# Altium schematic symbol library UCPD_capacitors.SchLib: 9 symbols
Pins are listed as number, name and electrical type; pins without a type are passive.

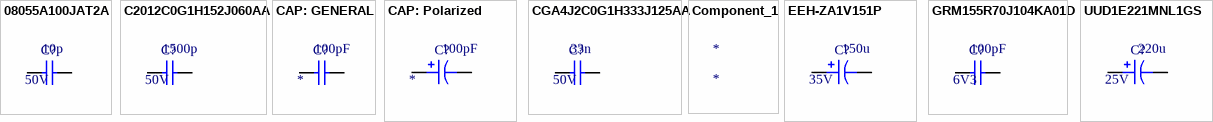
[diagram p0: symbols 08055A100JAT2A to UUD1E221MNL1GS]

## 08055A100JAT2A
designator C?  value 10p  Voltage: 50V  (hidden comment: 08055A100JAT2A)
CAP CER 10PF 50V C0G/NP0 0805; Manufacturer: AVX; Accuracy: 5%; Manufacturer Part Number: 08055A100JAT2A; Supplier Part Number 1: 478-1304-1-ND; Type: *; Package: 0805(2012m); Supplier 1: Digi-Key
footprint CAPC0603X03N (Chip Capacitor, 2-Leads, Body 0.60x0.30mm, IPC Medium Density (0201))
footprint CAPC1005X06N (Chip Capacitor, 2-Leads, Body 1.00x0.50mm, IPC Medium Density (0402))
footprint CAPC1608X09N (Chip Capacitor, 2-Leads, Body 1.60x0.80mm, IPC Medium Density (0603))
footprint CAPC2012X14N (Chip Capacitor, 2-Leads, Body 2.00x1.25mm, IPC Medium Density (0805))
footprint CAPC3225X28N (Chip Capacitor, 2-Leads, Body 3.20x2.50mm, IPC Medium Density (1210))
pins: 1, 2

## C2012C0G1H152J060AA
designator C?  value 1500p  Voltage: 50V  (hidden comment: C2012C0G1H152J060AA)
CAP CER 1500PF 50V C0G 0805; Manufacturer: TDK; Accuracy: 5%; Manufacturer Part Number: C2012C0G1H152J060AA; Supplier Part Number 1: 445-1331-1-ND; Type: *; Package: 0805(2012m); Supplier 1: Digi-Key
footprint CAPC0603X03N (Chip Capacitor, 2-Leads, Body 0.60x0.30mm, IPC Medium Density (0201))
footprint CAPC1005X06N (Chip Capacitor, 2-Leads, Body 1.00x0.50mm, IPC Medium Density (0402))
footprint CAPC1608X09N (Chip Capacitor, 2-Leads, Body 1.60x0.80mm, IPC Medium Density (0603))
footprint CAPC2012X14N (Chip Capacitor, 2-Leads, Body 2.00x1.25mm, IPC Medium Density (0805))
footprint CAPC3225X28N (Chip Capacitor, 2-Leads, Body 3.20x2.50mm, IPC Medium Density (1210))
pins: 1, 2

## CAP: GENERAL
designator C?  value 100pF
Capacitor General; Manufacturer Part Number: *; Manufacturer: *; Supplier Part Number 1: *; Accuracy: *; Type: *; Package: *; Supplier 1: Digi-Key; Voltage: *
footprint CAPC0603X03N (Chip Capacitor, 2-Leads, Body 0.60x0.30mm, IPC Medium Density (0201))
footprint CAPC1005X06N (Chip Capacitor, 2-Leads, Body 1.00x0.50mm, IPC Medium Density (0402))
footprint CAPC1608X09N (Chip Capacitor, 2-Leads, Body 1.60x0.80mm, IPC Medium Density (0603))
footprint CAPC2012X14N (Chip Capacitor, 2-Leads, Body 2.00x1.25mm, IPC Medium Density (0805))
footprint CAPC3225X28N (Chip Capacitor, 2-Leads, Body 3.20x2.50mm, IPC Medium Density (1210))
pins: 1, 2

## CAP: Polarized
designator C?  value 100pF
Polarized Capacitor; Manufacturer: *; Manufacturer Part Number: *; Supplier Part Number 1: *; Accuracy: *; Type: *; Package: *; Supplier 1: Digi-Key; Voltage: *
pins: 1, 2
1 alternate drawing of the same symbol

## CGA4J2C0G1H333J125AA
designator C?  value 33n  Voltage: 50V  (hidden comment: CGA4J2C0G1H333J125AA)
CAP CER 0.033UF 50V C0G 0805; Manufacturer: TDK; Accuracy: 5%; Manufacturer Part Number: CGA4J2C0G1H333J125AA; Supplier Part Number 1: 445-6950-1-ND; Type: *; Package: 0805(2012m); Supplier 1: Digi-Key
footprint CAPC0603X03N (Chip Capacitor, 2-Leads, Body 0.60x0.30mm, IPC Medium Density (0201))
footprint CAPC1005X06N (Chip Capacitor, 2-Leads, Body 1.00x0.50mm, IPC Medium Density (0402))
footprint CAPC1608X09N (Chip Capacitor, 2-Leads, Body 1.60x0.80mm, IPC Medium Density (0603))
footprint CAPC2012X14N (Chip Capacitor, 2-Leads, Body 2.00x1.25mm, IPC Medium Density (0805))
footprint CAPC3225X28N (Chip Capacitor, 2-Leads, Body 3.20x2.50mm, IPC Medium Density (1210))
pins: 1, 2

## Component_1
designator *

## EEH-ZA1V151P
designator C?  value 150u  Voltage: 35V  (hidden comment: EEH-ZA1V151P)
CAP ALUM POLY HYB 150UF 35V SMD; Manufacturer: Panasonic; Accuracy: 20%; Type: Aluminum; Manufacturer Part Number: EEH-ZA1V151P; Supplier Part Number 1: P15450CT-ND; Package: Radial, Can - SMD; Supplier 1: Digi-Key
footprint CAPAE1030X1050N
pins: 1, 2
1 alternate drawing of the same symbol

## GRM155R70J104KA01D
designator C?  value 100pF  Voltage: 6V3  (hidden comment: GRM155R70J104KA01D)
CAP CER 0.1UF 6.3V X7R 0402; Manufacturer: Murata; Manufacturer Part Number: GRM155R70J104KA01D; Supplier Part Number 1: 490-6319-1-ND; Accuracy: *; Type: *; Package: 0402(1005m); Supplier 1: Digi-Key
footprint CAPC0603X03N (Chip Capacitor, 2-Leads, Body 0.60x0.30mm, IPC Medium Density (0201))
footprint CAPC1005X06N (Chip Capacitor, 2-Leads, Body 1.00x0.50mm, IPC Medium Density (0402))
footprint CAPC1608X09N (Chip Capacitor, 2-Leads, Body 1.60x0.80mm, IPC Medium Density (0603))
footprint CAPC2012X14N (Chip Capacitor, 2-Leads, Body 2.00x1.25mm, IPC Medium Density (0805))
footprint CAPC3225X28N (Chip Capacitor, 2-Leads, Body 3.20x2.50mm, IPC Medium Density (1210))
pins: 1, 2

## UUD1E221MNL1GS
designator C?  value 220u  Voltage: 25V  (hidden comment: UUD1E221MNL1GS)
CAP ALUM 220UF 20% 25V SMD; Manufacturer: Nichicon; Type: Aluminum; Manufacturer Part Number: UUD1E221MNL1GS; Supplier Part Number 1: 493-2278-1-ND; Accuracy: 20%; Package: Radial, Can - SMD; Supplier 1: Digi-Key
footprint CAPAE1030X1050N
pins: 1, 2
1 alternate drawing of the same symbol